# Altium footprint library PcbLibBTRC.PcbLib: 19 footprints (part 1 of 2)
Each footprint in its own frame and in the unit in brackets; x right, y up, seen from the top. Pads: shape width x height; smd on the part's side, far side on the other; paste and mask are expansions set on the pad; w line width, h text height; cw(c..) or ccw(c..) is an arc to the next point about the centre after c.
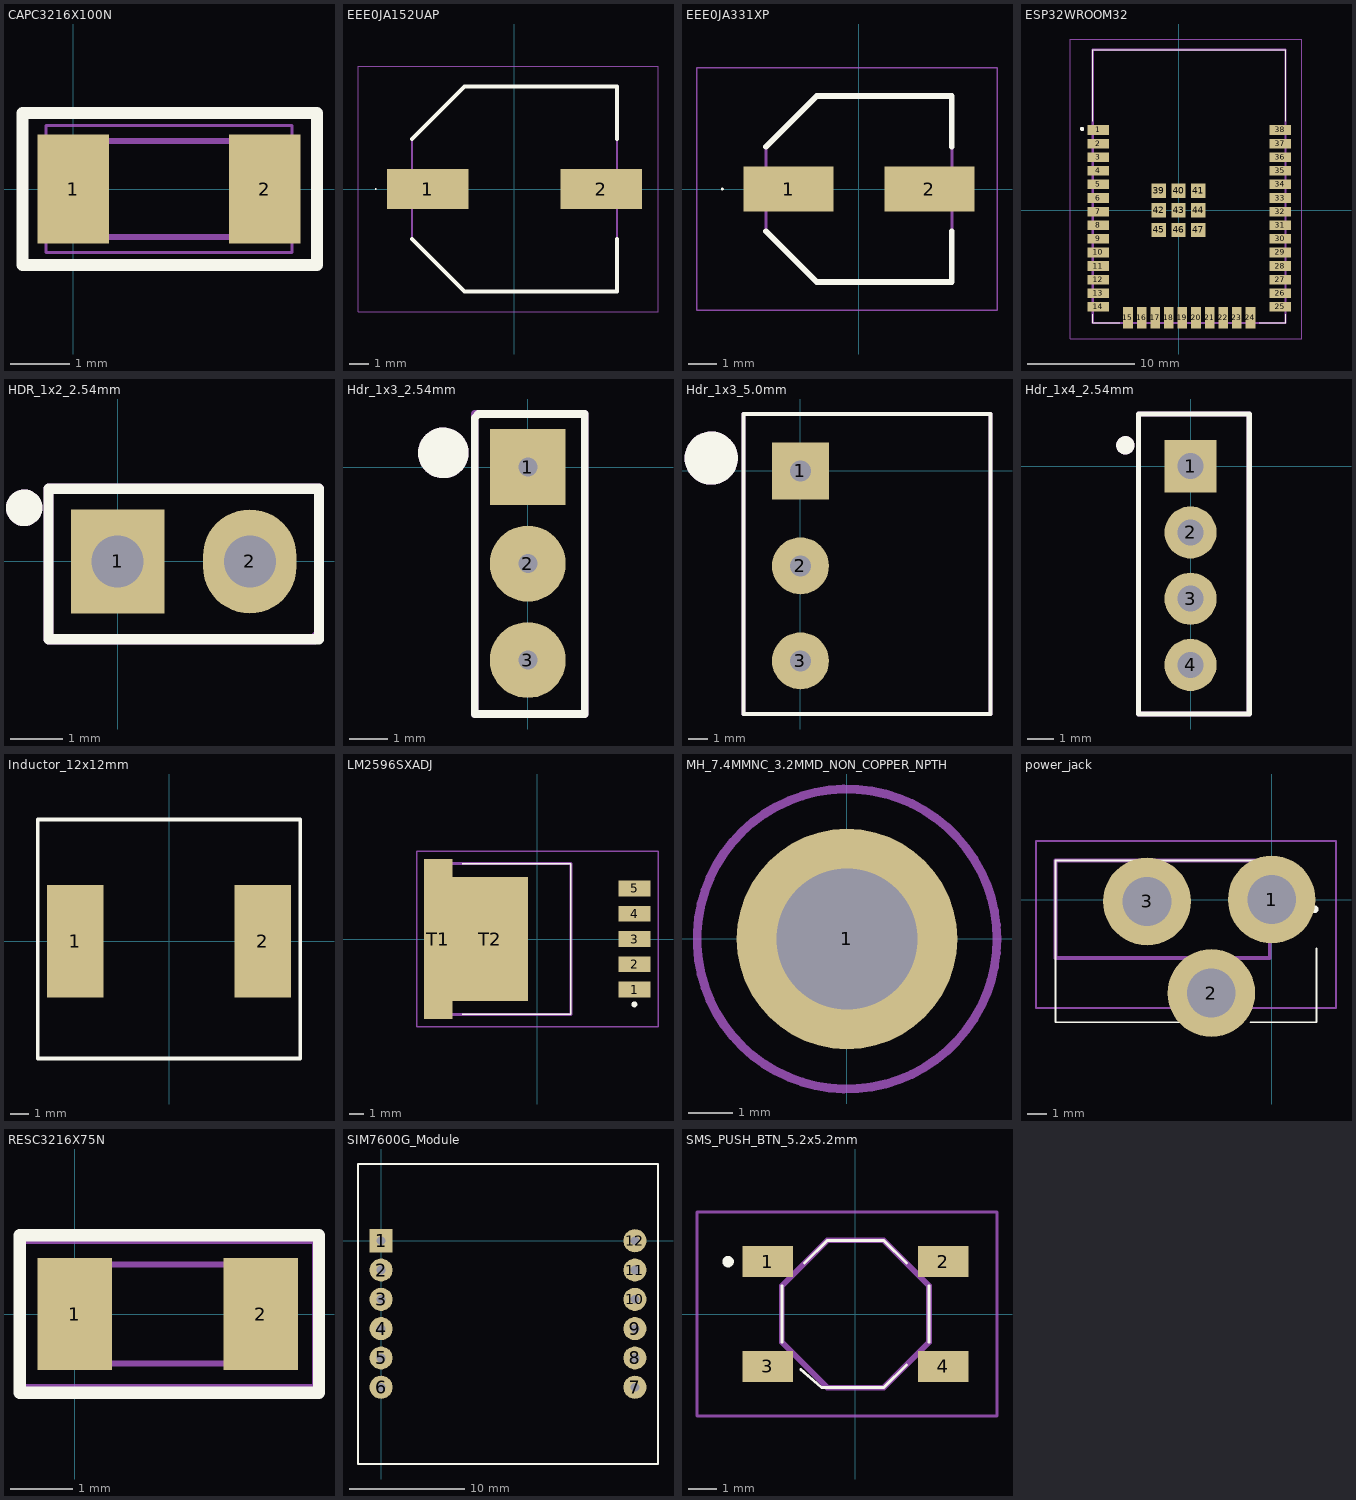
[diagram p0: the footprints below, top view; thin cyan lines are the x and y axes]

## CAPC3216X100N [mm]
pads (2):
  rect 1.2x1.82 smd: 1(0,0) 2(3.2,0)
Top Overlay:
  lines w0.2: -0.85,-1.27 4.075,-1.27 4.075,1.27 -0.85,1.27 -0.85,-1.27
Mechanical 13:
  lines w0.1: 0,-0.8 0,0.8 3.2,0.8 3.2,-0.8 0,-0.8
Mechanical 15:
  lines w0.05: -0.46,-1.06 -0.46,1.06 3.66,1.06 3.66,-1.06 -0.46,-1.06
3D body "C3216X5R1C106K085AC.stp": height 1.6, standoff 0, extent 0,-0.8 3.2,0.8

## EEE0JA152UAP [mm]
pads (2):
  rect 4.1x2 smd: 1(-4.35,0) 2(4.35,0)
Top Overlay:
  lines w0.05: -6.975,0 ccw(c-6.95,0) -6.925,0 ccw(c-6.95,0) -6.975,0
  lines w0.2: -5.15,-2.5 -2.5,-5.15 5.15,-5.15 5.15,-2.5 ; -5.15,2.5 -2.5,5.15 5.15,5.15 5.15,2.5
Mechanical 13:
  lines w0.1: -5.15,2.5 -2.5,5.15 ; -5.15,2.5 -5.15,-2.5 -2.5,-5.15 5.15,-5.15 5.15,5.15 -2.5,5.15 ; -5.15,2.5 -2.5,5.15
Mechanical 15:
  lines w0.05: -7.85,-6.15 7.2,-6.15 7.2,6.15 -7.85,6.15 -7.85,-6.15
3D body "EEE-TC1E221P.stp": height 10.2, standoff 0, extent -5.81,-5.15 5.89,5.15

## EEE0JA331XP [mm]
pads (2):
  rect 3.2x1.6 smd: 1(-2.5,0) 2(2.5,0)
Top Overlay:
  lines w0.05: -4.875,0 ccw(c-4.85,0) -4.825,0 ccw(c-4.85,0) -4.875,0
  lines w0.2: -3.3,-1.5 -1.5,-3.3 3.3,-3.3 3.3,-1.5 ; -3.3,1.5 -1.5,3.3 3.3,3.3 3.3,1.5
Mechanical 13:
  lines w0.1: -3.3,1.5 -1.5,3.3 ; -3.3,1.5 -3.3,-1.5 -1.5,-3.3 3.3,-3.3 3.3,3.3 -1.5,3.3 ; -3.3,1.5 -1.5,3.3
Mechanical 15:
  lines w0.05: -5.75,-4.3 4.9,-4.3 4.9,4.3 -5.75,4.3 -5.75,-4.3
3D body "EEE-TC1C101XP.stp": height 0, standoff 0, extent 0,0 0,0

## ESP32WROOM32 [mm]
pads (47):
  rect 2x0.9 smd: 1(-7.5,7.5) 2(-7.5,6.23) 3(-7.5,4.96) 4(-7.5,3.69) 5(-7.5,2.42) 6(-7.5,1.15) 7(-7.5,-0.12) 8(-7.5,-1.39) 9(-7.5,-2.66) 10(-7.5,-3.93) 11(-7.5,-5.2) 12(-7.5,-6.47) 13(-7.5,-7.74) 14(-7.5,-9.01) 25(9.5,-9.01) 26(9.5,-7.74) 27(9.5,-6.47) 28(9.5,-5.2) 29(9.5,-3.93) 30(9.5,-2.66) 31(9.5,-1.39) 32(9.5,-0.12) 33(9.5,1.15) 34(9.5,2.42) 35(9.5,3.69) 36(9.5,4.96) 37(9.5,6.23) 38(9.5,7.5)
  rect 0.9x2 smd: 15(-4.715,-10.01) 16(-3.445,-10.01) 17(-2.175,-10.01) 18(-0.905,-10.01) 19(0.365,-10.01) 20(1.635,-10.01) 21(2.905,-10.01) 22(4.175,-10.01) 23(5.445,-10.01) 24(6.715,-10.01)
  rect 1.33x1.33 smd: 39(-1.835,1.835) 40(0,1.835) 41(1.835,1.835) 42(-1.835,0) 43(0,0) 44(1.835,0) 45(-1.835,-1.835) 46(0,-1.835) 47(1.835,-1.835)
Top Overlay:
  lines w0.1: -8,-9.71 -8,-10.51 -5.465,-10.51 ; -8,8.29 -8,14.99 10,14.99 10,8.29 ; 7.535,-10.51 10,-10.51 10,-9.71
  lines w0.2: -9,7.5 cw(c-9,7.6) -9,7.7 cw(c-9,7.6) -9,7.5
Mechanical 13:
  lines w0.2: -8,-10.51 10,-10.51 10,14.99 -8,14.99 -8,-10.51
Mechanical 15:
  lines w0.1: -10.1,-12.01 11.5,-12.01 11.5,15.99 -10.1,15.99 -10.1,-12.01
3D body "ESP32_WROOM32.stp": height 3.1, standoff 0, extent -8,-10.5 10,15

## HDR_1x2_2.54mm [mm]
pads (2):
  rect 1.8x2 hole 1: 1(0,0)
  oval 1.8x2 hole 1: 2(2.54,0)
Top Overlay:
  circle w0.5: c-1.798,1.031 r0.1
  lines w0.2: -1.33,-1.5 -1.33,1.4 3.67,1.4 3.87,1.4 3.87,-1.5 -1.33,-1.5
Mechanical 29:
  circle w0.5: c-1.798,1.031 r0.1
  lines w0.2: -1.33,-1.5 -1.33,1.4 3.87,1.4 3.87,-1.4 3.77,-1.5 -1.33,-1.5
  text ".Designator" at 1.17,-0.233 h0.5

## Hdr_1x3_2.54mm [mm]
pads (3):
  rect 2x2 hole 0.5: 1(0,0)
  round 2 hole 0.5: 2(0,-2.54) 3(0,-5.08)
Top Overlay:
  circle w0.7: c-2.225,0.375 r0.316
  lines w0.2: -1.4,-6.5 -1.2,-6.5 1.5,-6.5 1.5,1.4 1.3,1.4 -1.3,1.4 -1.4,1.3 -1.4,-6.5
Mechanical 29:
  circle w0.7: c-2.225,0.375 r0.316
  lines w0.2: -1.4,-6.5 1.5,-6.5 1.5,1.4 -1.4,1.4 -1.4,-6.5
  text ".Designator" at -0.65,-2.683 h0.8
3D body "User Library-RM254_3pin.step": height 6.03, standoff -3.09, extent -1.17,-6.32 1.37,1.3

## Hdr_1x3_5.0mm [mm]
pads (3):
  rect 3x3 hole 1.1: 1(0,0)
  round 3 hole 1.1: 2(0,-5) 3(0,-10)
Top Overlay:
  circle w2: c-4.7,0.675 r0.4
  lines w0.2: -3,-12.8 10,-12.8 10,3 -3,3 -3,-12.8
Mechanical 29:
  circle w2: c-4.7,0.675 r0.4
  lines w0.2: -3,-12.8 10,-12.8 10,3 -3,3 -3,-12.8
  text ".Designator" at 1.4,-5.517 h1

## Hdr_1x4_2.54mm [mm]
pads (4):
  rect 2x2 hole 1: 1(0,0)
  round 2 hole 1: 2(0,-2.54) 3(0,-5.08) 4(0,-7.62)
Top Overlay:
  circle w0.5: c-2.5,0.8 r0.1
  lines w0.2: 0,2 -2,2 ; -2,2 2.25,2 2.25,-9.5 -2,-9.5 -2,2
Mechanical 29:
  circle w0.5: c-2.5,0.8 r0.1
  lines w0.2: -2,-9.5 -2,2 2.25,2 2.25,-9.5 -2,-9.5
  text ".Designator" at 0.275,-6.9 h1.2

## Inductor_12x12mm [mm]
pads (2):
  rect 3x6 smd: 1(-5,0) 2(5,0)
Top Overlay:
  lines w0.2: -5,-6.25 7,-6.25 7,6.5 -7,6.5 -7,2 -7,-6.25 -4.75,-6.25

## LM2596SXADJ [mm]
pads (7):
  rect 2.16x1.07 smd: 1(6.545,-3.4) 2(6.545,-1.7) 3(6.545,0) 4(6.545,1.7) 5(6.545,3.4)
  rect 1.91x10.8 smd: T1(-6.67,0)
  rect 5.08x8.33 smd: T2(-3.175,0)
Top Overlay:
  lines w0.1: -5.063,-5.08 2.258,-5.08 2.258,5.08 -5.063,5.08
  lines w0.2: 6.437,-4.4 cw(c6.537,-4.4) 6.637,-4.4 cw(c6.537,-4.4) 6.437,-4.4
Mechanical 13:
  lines w0.2: -6.383,-5.08 -6.383,5.08 2.258,5.08 2.258,-5.08 -6.383,-5.08
Mechanical 15:
  lines w0.1: -8.125,-5.9 -8.125,5.9 8.125,5.9 8.125,-5.9 -8.125,-5.9
3D body "LM2596S-ADJ_NOPB.stp": height 4.8, standoff 0, extent -7.2,-5.21 7.192,5.2

## MH_7.4MMNC_3.2MMD_NON_COPPER_NPTH [mm]
pads (1):
  round 5 hole 3.2 unplated: 1(0,0)
Mechanical 29:
  circle w0.2: c0,0 r3.4

## PCBComponent_1 [mm]

## power_jack [mm]
pads (3):
  round 4.5 hole 2.5: 1(0,0) 2(-3.1,-4.8) 3(-6.4,-0.1)
Top Overlay:
  lines w0.1: -4.1,-6.3 -11.1,-6.3 -11.1,2 -0.1,2 ; -1.1,-6.3 2.3,-6.3 2.3,-2.5
  lines w0.2: 2.2,-0.6 ccw(c2.2,-0.5) 2.2,-0.4 ccw(c2.2,-0.5) 2.2,-0.6
Mechanical 13:
  lines w0.2: -11.1,-3 -0.1,-3 -0.1,2 -11.1,2 -11.1,-3
Mechanical 15:
  lines w0.1: -12.1,-5.575 3.3,-5.575 3.3,2.999 -12.1,2.999 -12.1,-5.575

## RESC3216X75N [mm]
pads (2):
  rect 1.2x1.8 smd: 1(0,0) 2(3,0)
Top Overlay:
  lines w0.2: -0.889,-1.27 3.937,-1.27 3.937,1.27 -0.889,1.27 -0.889,-1.27
Mechanical 13:
  lines w0.1: -0.1,-0.8 -0.1,0.8 3.1,0.8 3.1,-0.8 -0.1,-0.8
Mechanical 15:
  lines w0.05: -0.85,-1.15 -0.85,1.15 3.85,1.15 3.85,-1.15 -0.85,-1.15
3D body "CR1206-F_-2R00ELF.stp": height 0.75, standoff 0, extent -0.1,-0.8 3.1,0.8

## SIM7600G_Module [mm]
pads (12):
  rect 2x2 hole 0.76: 1(0,0)
  round 2 hole 0.76: 2(0,-2.54) 3(0,-5.08) 4(0,-7.62) 5(0,-10.16) 6(0,-12.7) 7(22,-12.7) 8(22,-10.16) 9(22,-7.62) 10(22,-5.08) 11(22,-2.54) 12(22,0)
Top Overlay:
  lines w0.2: -2,-19.35 24,-19.35 24,6.65 -2,6.65 -2,-19.35

## SMS_PUSH_BTN_5.2x5.2mm [mm]
pads (4):
  rect 1.8x1.1 smd: 1(-3.1,1.85) 2(3.1,1.85) 3(-3.1,-1.85) 4(3.1,-1.85)
Top Overlay:
  lines w0.1: -2.6,-1 -2.6,1 ; -1.935,-1.952 -1.206,-2.6 1,-2.6 1.8,-1.8 ; -1.8,1.8 -1,2.6 1,2.6 1.8,1.8 ; 2.6,-1 2.6,1
  lines w0.2: -4.5,1.75 ccw(c-4.5,1.85) -4.5,1.95 ccw(c-4.5,1.85) -4.5,1.75
Mechanical 13:
  lines w0.2: -2.6,-1 -2.6,1 -1,2.6 1,2.6 2.6,1 2.6,-1 1,-2.6 -1,-2.6 -2.6,-1
Mechanical 15:
  lines w0.1: -5.6,-3.6 5,-3.6 5,3.6 -5.6,3.6 -5.6,-3.6